# Altium schematic symbol library SamacSys.SchLib: 10 symbols
Pins are listed as number, name and electrical type; pins without a type are passive.

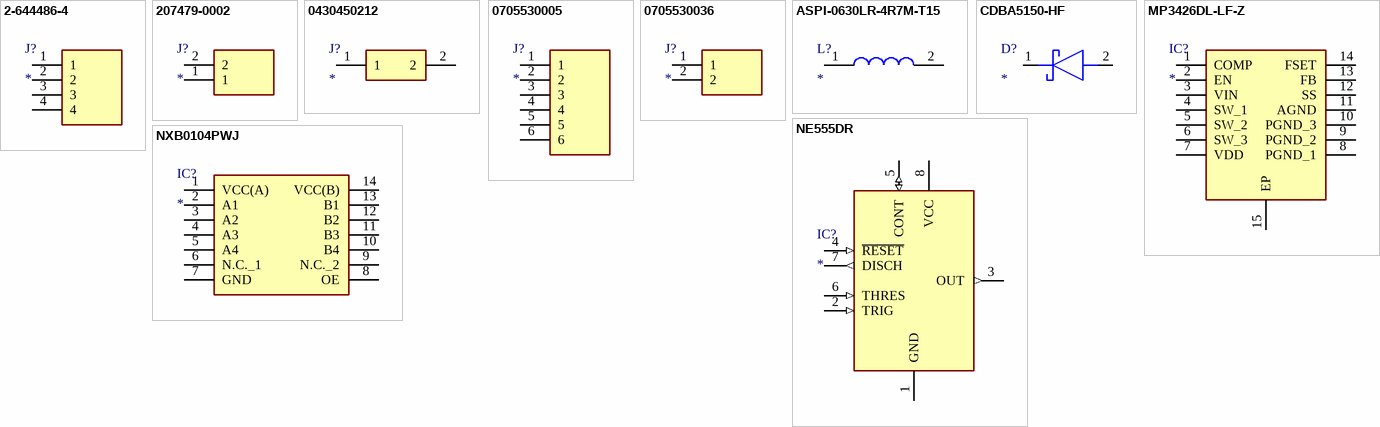
[diagram p0: symbols 2-644486-4 to NXB0104PWJ]

## 2-644486-4
designator J?
Connector; Manufacturer_Name: TE Connectivity; Manufacturer_Part_Number: 2-644486-4; Datasheet Link: http://www.te.com/commerce/DocumentDelivery/DDEController?Action=showdoc&DocId=Customer+Drawing%7F644486%7FL%7Fpdf%7FEnglish%7FENG_CD_644486_L_baseFilename.pdf%7F2-644486-4.pdf; Height: 10.668mm; Mouser Part Number: 571-2-644486-4; Mouser Price/Stock: https://www.mouser.co.uk/ProductDetail/TE-Connectivity-AMP/2-644486-4?qs=8XyASyDp%2FcDn2y5ith8QSA%3D%3D; Arrow Part Number: 2-644486-4; Arrow Price/Stock: https://www.arrow.com/en/products/2-644486-4/te-connectivity
footprint 26444864
pins: 1, 2, 3, 4

## 207479-0002
designator J?
Connector; Manufacturer_Name: Molex; Manufacturer_Part_Number: 207479-0002; Datasheet Link: https://www.molex.com/pdm_docs/sd/2074790004_sd.pdf; Height: 14.1mm; Mouser Part Number: 538-207479-0002; Mouser Price/Stock: https://www.mouser.co.uk/ProductDetail/Molex/207479-0002?qs=d9U39LAeJF1bNMEwXUANYg%3D%3D
footprint 2074790002
pins: 1, 2

## 0430450212
designator J?
Connector; Manufacturer_Name: Molex; Manufacturer_Part_Number: 0430450212; Datasheet Link: http://www.molex.com/pdm_docs/sd/430450212_sd.pdf; Arrow Part Number: 0430450212; Arrow Price/Stock: https://www.arrow.com/en/products/0430450212/molex
footprint 0430450212
pins: 1, 2

## 0705530005
designator J?
Connector; Manufacturer_Name: Molex; Manufacturer_Part_Number: 0705530005; Datasheet Link: https://www.molex.com/pdm_docs/sd/705530005_sd.pdf; Height: 6.99mm; Mouser Part Number: N/A; Mouser Price/Stock: https://www.mouser.co.uk/ProductDetail/Molex/0705530005?qs=PBcRNPEHKsq8dLeRN2VY7Q%3D%3D; Arrow Part Number: 0705530005; Arrow Price/Stock: https://www.arrow.com/en/products/0705530005/molex
footprint SHDRRA6W64P0X254_1X6_1779X1359X699P
pins: 1, 2, 3, 4, 5, 6

## 0705530036
designator J?
Connector; Manufacturer_Name: Molex; Manufacturer_Part_Number: 0705530036; Datasheet Link: https://www.molex.com/pdm_docs/sd/705530036_sd.pdf; Height: 6.99mm; Mouser Part Number: N/A; Mouser Price/Stock: https://www.mouser.com/Search/Refine.aspx?Keyword=N%2FA; Arrow Part Number: 0705530036; Arrow Price/Stock: https://www.arrow.com/en/products/0705530036/molex
footprint SHDRRA2W64P0X254_1X2_737X1359X699P
pins: 1, 2

## ASPI-0630LR-4R7M-T15
designator L?
Inductor; Manufacturer_Name: ABRACON; Manufacturer_Part_Number: ASPI-0630LR-4R7M-T15; Datasheet Link: http://www.abracon.com/Magnetics/power/ASPI-0630LR.pdf; Mouser Part Number: 815-ASPI0630LR4R7T15; Mouser Price/Stock: https://www.mouser.co.uk/ProductDetail/ABRACON/ASPI-0630LR-4R7M-T15?qs=bWAYEm3xoCYVuRmkzS1c6A%3D%3D; Arrow Part Number: ASPI-0630LR-4R7M-T15; Arrow Price/Stock: https://www.arrow.com/en/products/aspi-0630lr-4r7m-t15/abracon
footprint ASPI-0630LR
pins: 1, 2

## CDBA5150-HF
designator D?
Schottky Diode; Manufacturer_Name: Comchip Technology; Manufacturer_Part_Number: CDBA5150-HF; Datasheet Link: http://www.comchiptech.com/admin/files/product/CDBA540-HF%20Thru505580.%20CDBA5200-HF%20RevC.pdf; Height: 2.5mm; Mouser Part Number: 750-CDBA5150-HF; Mouser Price/Stock: https://www.mouser.com/Search/Refine.aspx?Keyword=750-CDBA5150-HF; Arrow Part Number: CDBA5150-HF; Arrow Price/Stock: https://www.arrow.com/en/products/cdba5150-hf/comchip-technology
footprint DIOM5225X250N
pins: 1 K, 2 A

## MP3426DL-LF-Z
designator IC?
Integrated Circuit; Manufacturer_Name: Monolithic Power Systems (MPS); Manufacturer_Part_Number: MP3426DL-LF-Z; Datasheet Link: https://www.monolithicpower.com/en/documentview/productdocument/index/version/2/document_type/Datasheet/lang/en/sku/MP3426/; Height: 1mm; Mouser Part Number: 946-MP3426DL-LF-Z; Mouser Price/Stock: https://www.mouser.co.uk/ProductDetail/Monolithic-Power-Systems-MPS/MP3426DL-LF-Z?qs=Z3CaLxJiOJL0MxCuEKYvhQ%3D%3D
footprint SON50P300X400X100-15N-D
pins: 1 COMP, 2 EN, 3 VIN, 4 SW_1, 5 SW_2, 6 SW_3, 7 VDD, 8 PGND_1, 9 PGND_2, 10 PGND_3, 11 AGND, 12 SS, 13 FB, 14 FSET, 15 EP

## NE555DR
designator IC?
Integrated Circuit; Manufacturer_Name: Texas Instruments; Manufacturer_Part_Number: NE555DR; Datasheet Link: http://www.ti.com/lit/ds/symlink/ne555.pdf; Height: 1.75mm; Mouser Part Number: 595-NE555DR; Mouser Price/Stock: https://www.mouser.com/Search/Refine.aspx?Keyword=595-NE555DR; RS Part Number: 1218414; RS Price/Stock: http://uk.rs-online.com/web/p/products/1218414
footprint SOIC127P600X175-8N
pins: 1 GND (power), 2 TRIG (in), 3 OUT (out), 4 ~{RESET} (in), 5 CONT (io), 6 THRES (in), 7 DISCH (out), 8 VCC (power)

## NXB0104PWJ
designator IC?
Integrated Circuit; Manufacturer_Name: Nexperia; Manufacturer_Part_Number: NXB0104PWJ; Datasheet Link: https://componentsearchengine.com/Datasheets/2/NXB0104PWJ.pdf; Height: 1.1mm
footprint SOP65P640X110-14N
pins: 1 VCC(A), 2 A1, 3 A2, 4 A3, 5 A4, 6 N.C._1, 7 GND, 8 OE, 9 N.C._2, 10 B4, 11 B3, 12 B2, 13 B1, 14 VCC(B)